# EAGLE library part SAK-XC874CM-13FV (library hsk_2012)
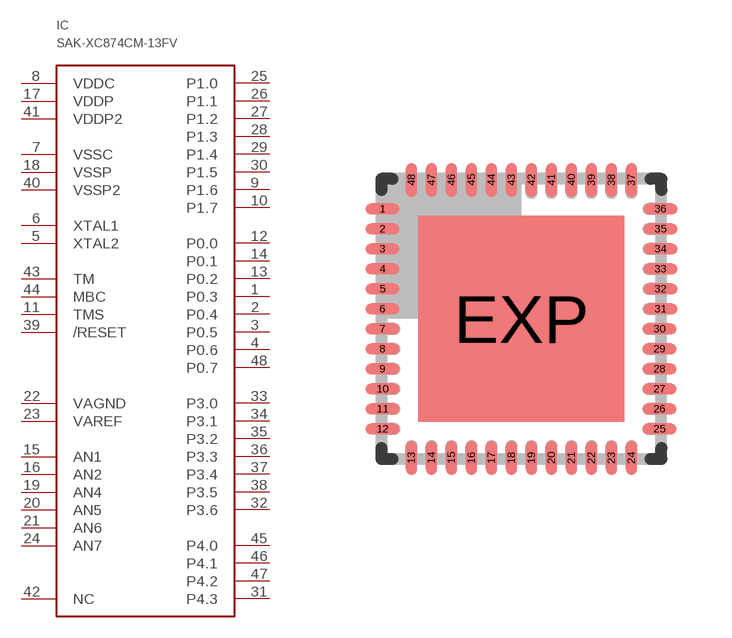
[diagram p55: symbol with the pads of RGZ_S-PVQFN-N48; footprint RGZ_S-PVQFN-N48]

Designator prefix IC

## SAK-XC874CM-13FV  [RGZ_S-PVQFN-N48]
1  P0.3
2  P0.4
3  P0.5
4  P0.6
5  XTAL2
6  XTAL1
7  VSSC
8  VDDC
9  P1.6
10  P1.7
11  TMS
12  P0.0
13  P0.2
14  P0.1
15  AN1
16  AN2
17  VDDP
18  VSSP
19  AN4
20  AN5
21  AN6
22  VAGND
23  VAREF
24  AN7
25  P1.0
26  P1.1
27  P1.2
28  P1.3
29  P1.4
30  P1.5
31  P4.3
32  P3.6
33  P3.0
34  P3.1
35  P3.2
36  P3.3
37  P3.4
38  P3.5
39  /RESET
40  VSSP2
41  VDDP2
42  NC
43  TM
44  MBC
45  P4.0
46  P4.1
47  P4.2
48  P0.7

## Footprint RGZ_S-PVQFN-N48 (pad centres in mm)
RGZ (S-PVQFN-N48)
smd 0.85 x 0.28: 1 -3.475,2.75; 2 -3.475,2.25; 3 -3.475,1.75; 4 -3.475,1.25; 5 -3.475,0.75; 6 -3.475,0.25; 7 -3.475,-0.25; 8 -3.475,-0.75; 9 -3.475,-1.25; 10 -3.475,-1.75; 11 -3.475,-2.25; 12 -3.475,-2.75; 25 3.45,-2.75; 26 3.45,-2.25; 27 3.45,-1.75; 28 3.45,-1.25; 29 3.45,-0.75; 30 3.45,-0.25; 31 3.475,0.25; 32 3.475,0.75; 33 3.475,1.25; 34 3.475,1.75; 35 3.475,2.25; 36 3.475,2.75
smd 0.28 x 0.85: 13 -2.75,-3.475; 14 -2.25,-3.475; 15 -1.75,-3.475; 16 -1.25,-3.475; 17 -0.75,-3.475; 18 -0.25,-3.475; 19 0.25,-3.475; 20 0.75,-3.475; 21 1.25,-3.475; 22 1.75,-3.475; 23 2.25,-3.475; 24 2.75,-3.475; 37 2.75,3.475; 38 2.25,3.475; 39 1.75,3.475; 40 1.25,3.475; 41 0.75,3.475; 42 0.25,3.475; 43 -0.25,3.475; 44 -0.75,3.475; 45 -1.25,3.475; 46 -1.75,3.475; 47 -2.25,3.475; 48 -2.75,3.475
smd 5.15 x 5.15: EXP 0,0